# Altium footprint library PcbLib1.PcbLib: 19 footprints (part 1 of 2)
Each footprint in its own frame and in the unit in brackets; x right, y up, seen from the top. Pads: shape width x height; smd on the part's side, far side on the other; paste and mask are expansions set on the pad; w line width, h text height; cw(c..) or ccw(c..) is an arc to the next point about the centre after c.
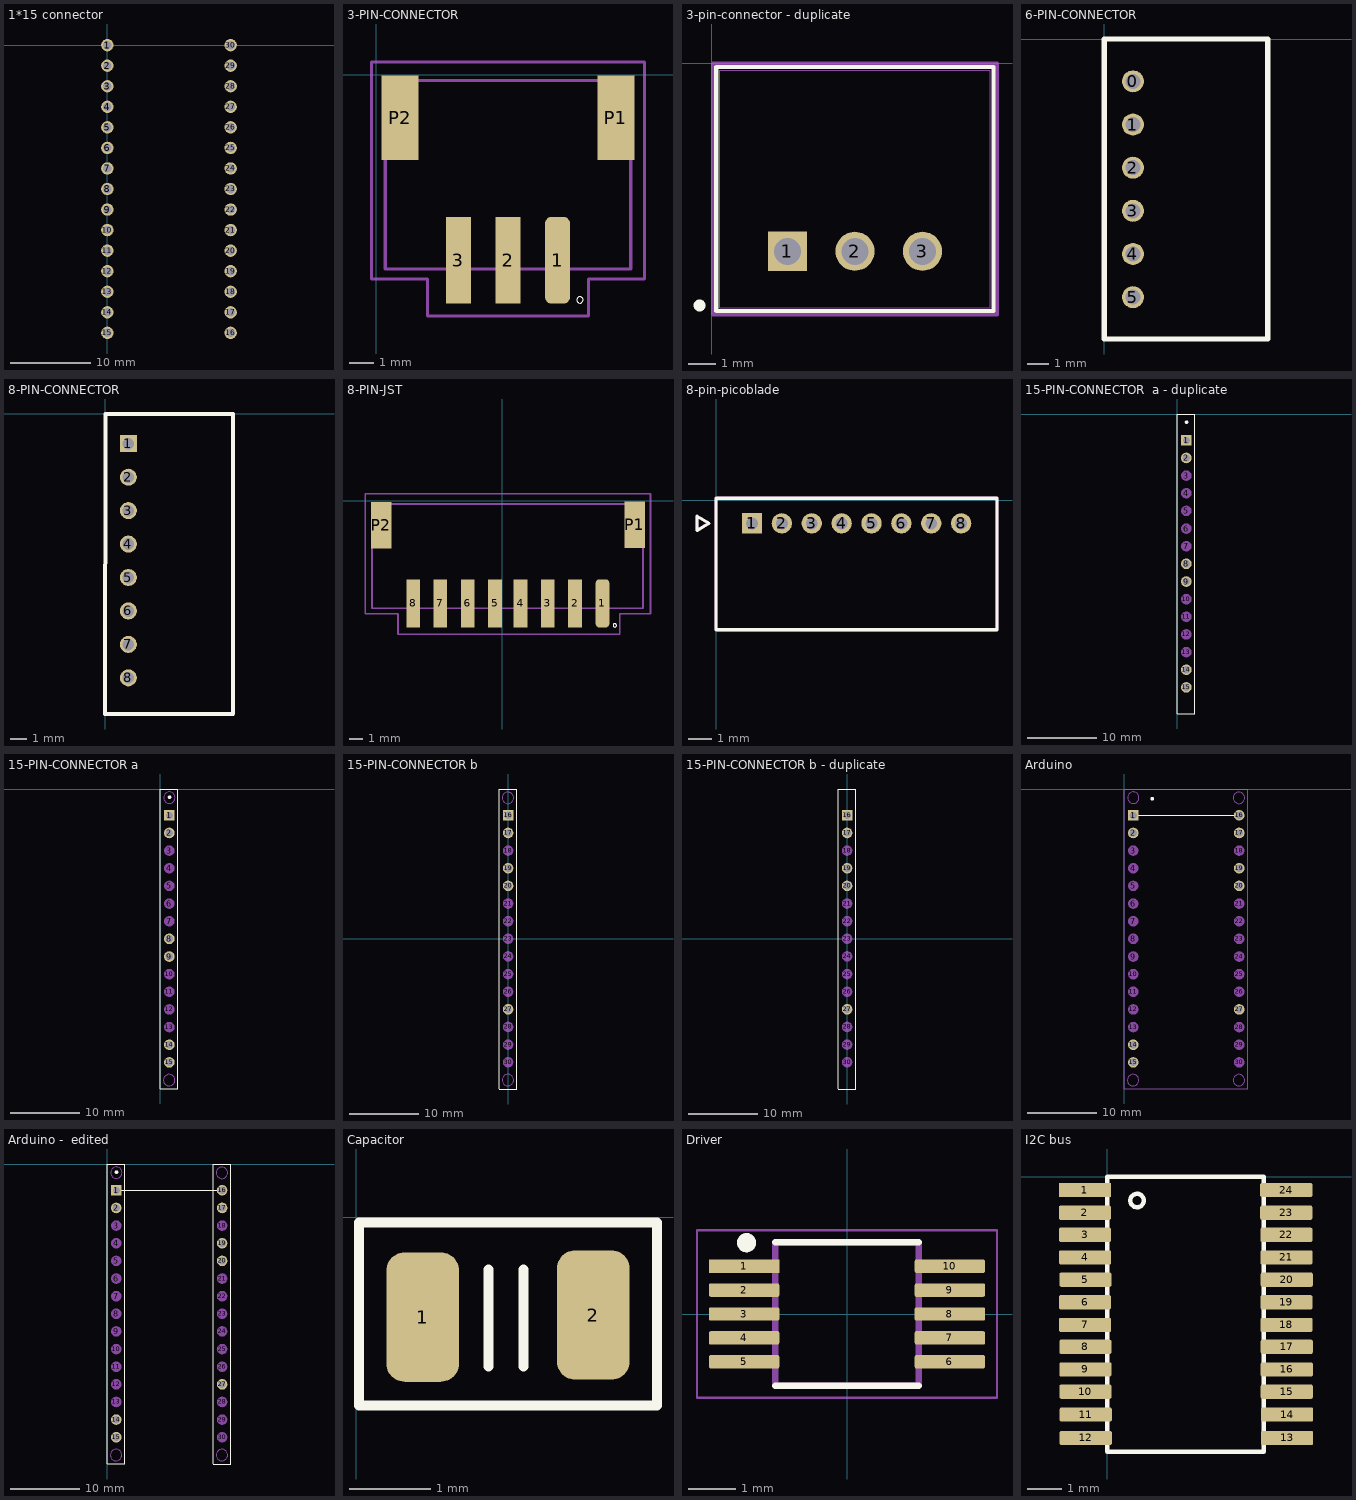
[diagram p0: the footprints below, top view; thin cyan lines are the x and y axes]

## 1*15 connector [mil] "Arduino"
pads (30):
  round 60 hole 40: 1(0,-0.39) 4(0,-300.39) 7(0,-600.39) 10(0,-900.39) 13(0,-1200.39) 16(600,-1400.39) 19(600,-1100.39) 22(600,-800.39) 25(600,-500.39) 28(600,-200.39)
  round 60 hole 41.77: 2(0,-100.39) 3(0,-200.39) 5(0,-400.39) 6(0,-500.39) 8(0,-700.39) 9(0,-800.39) 11(0,-1000.39) 12(0,-1100.39) 14(0,-1300.39) 15(0,-1400.39) 17(600,-1300.39) 18(600,-1200.39) 20(600,-1000.39) 21(600,-900.39) 23(600,-700.39) 24(600,-600.39) 26(600,-400.39) 27(600,-300.39) 29(600,-100.39) 30(600,-0.39)

## 3-PIN-CONNECTOR [mm]
pads (5):
  rrect50% 1x3.5 smd: 1(7.315,-7.482)
  rect 1x3.5 smd: 2(5.315,-7.482) 3(3.315,-7.482)
  rect 1.5x3.4 smd: P1(9.665,-1.732) P2(0.965,-1.732)
Top Overlay:
  circle w0: c8.215,-9.082 r0.127
Mechanical 13:
  lines w0.127: 0.365,-7.832 0.365,-0.232 10.265,-0.232 10.265,-7.832 0.365,-7.832
Mechanical 15:
  lines w0.127: -0.185,-8.232 -0.185,0.518 10.815,0.518 10.815,-8.232 8.565,-8.232 8.565,-9.732 2.065,-9.732 2.065,-8.232 -0.185,-8.232

## 3-pin-connector - duplicate [mm] "through hole"
pads (3):
  rect 1.449x1.449 hole 1: 1(2.79,-6.966)
  round 1.449 hole 1: 2(5.29,-6.966) 3(7.79,-6.966)
Top Overlay:
  circle w0.254: c-0.46,-8.97 r0.095
  lines w0.152: 0.159,-9.181 10.421,-9.181 10.421,-0.139 0.159,-0.139 0.159,-9.181
Mechanical 13:
  lines w0.025: 0.286,-9.054 10.294,-9.054 10.294,-0.266 0.286,-0.266 0.286,-9.054
Mechanical 15:
  lines w0.152: 0.032,-9.308 0.032,-0.012 10.548,-0.012 10.548,-9.308 0.032,-9.308
3D body: height 0.25, standoff 0, extent 2.79,-6.966 3.044,-6.712

## 6-PIN-CONNECTOR [mil]
pads (6):
  round 40 hole 27.56: 0(52.36,-76.83) 1(52.36,-155.57) 2(52.36,-234.31) 3(52.36,-313.05) 4(52.36,-391.79) 5(52.36,-470.53)
Top Overlay:
  lines w10: -0.27,-546.87 -0.27,0.44 298.42,0.44 298.42,-546.87 -0.27,-546.87

## 8-PIN-CONNECTOR [mil]
pads (8):
  rect 40x40 hole 27.56: 1(53.98,-70.39)
  round 40 hole 27.56: 2(53.98,-149.13) 3(53.98,-227.87) 4(53.98,-306.61) 5(53.98,-385.35) 6(53.98,-464.09) 7(53.98,-542.83) 8(53.98,-621.58)
Top Overlay:
  lines w10: -1.31,-706.67 0,-0.39 53.98,-0.39 300.04,-0.39 300.55,-706.29 0,-706.67

## 8-PIN-JST [mm] "SMT"
pads (10):
  rrect50% 1x3.5 smd: 1(7.315,-7.482)
  rect 1x3.5 smd: 2(5.315,-7.482) 3(3.315,-7.482) 4(1.335,-7.482) 5(-0.522,-7.482) 6(-2.522,-7.482) 7(-4.522,-7.482) 8(-6.502,-7.482)
  rect 1.5x3.4 smd: P1(9.665,-1.732) P2(-8.825,-1.782)
Top Overlay:
  circle w0: c8.215,-9.082 r0.127
Mechanical 13:
  lines w0.127: -9.51,-7.832 10.265,-7.832 10.265,-0.232 -9.51,-0.232 -9.51,-7.832
Mechanical 15:
  lines w0.127: -10,-8.232 -7.6,-8.232 -7.6,-9.732 8.565,-9.732 8.565,-8.232 10.815,-8.232 10.815,0.518 -10,0.518 -10,-8.232

## 8-pin-picoblade [mm] "PicoBlade"
pads (8):
  rect 0.85x0.85 hole 0.5 mask+0.076: 1(1.505,-0.977)
  round 0.85 hole 0.5 mask+0.076: 2(2.755,-0.977) 3(4.005,-0.977) 4(5.255,-0.977) 5(6.505,-0.977) 6(7.755,-0.977) 7(9.005,-0.977) 8(10.255,-0.977)
Top Overlay:
  lines w0.127: -0.795,-1.277 -0.795,-0.677 -0.295,-0.977 -0.795,-1.277 ; 0.005,-5.427 11.755,-5.427 11.755,0.073 0.005,0.073 0.005,-5.427
Bottom Solder:
  circle w0.501: c2.755,-0.977 r0.251
  circle w0.501: c4.005,-0.977 r0.251
  circle w0.501: c5.255,-0.977 r0.251
  circle w0.501: c6.505,-0.977 r0.251
  circle w0.501: c7.755,-0.977 r0.251
  circle w0.501: c9.005,-0.977 r0.251
  circle w0.501: c10.255,-0.977 r0.251
  region: 2.006,-1.478 1.004,-1.478 1.004,-0.476 2.006,-0.476
Mechanical 13:
  lines w0.127: -0.795,-1.277 -0.795,-0.677 -0.295,-0.977 -0.795,-1.277 ; 0.005,-5.427 11.755,-5.427 11.755,0.073 0.005,0.073 0.005,-5.427

## 15-PIN-CONNECTOR  a - duplicate [mil] "Arduino Nano 33 BLE a"
pads (15):
  rect 60x60 hole 40: 1(51.18,-149.21)
  round 60 hole 41.77: 2(51.18,-249.21) 8(51.18,-849.21) 9(51.18,-949.21) 14(51.18,-1449.21) 15(51.18,-1549.21)
  round 60 on Mech1: 3(51.18,-349.21) 4(51.18,-449.21) 5(51.18,-549.21) 6(51.18,-649.21) 7(51.18,-749.21) 10(51.18,-1049.21) 11(51.18,-1149.21) 12(51.18,-1249.21) 13(51.18,-1349.21)
Top Overlay:
  circle w10: c52.36,-46.06 r5.35
  lines w5: 0,-1700 98.43,-1700 98.43,0 0,0 0,-1700

## 15-PIN-CONNECTOR a [mil] "Arduino Nano 33 BLE a"
pads (15):
  rect 60x60 hole 40: 1(51.18,-149.21)
  round 60 hole 41.77: 2(51.18,-249.21) 8(51.18,-849.21) 9(51.18,-949.21) 14(51.18,-1449.21) 15(51.18,-1549.21)
  round 60 on Mech1: 3(51.18,-349.21) 4(51.18,-449.21) 5(51.18,-549.21) 6(51.18,-649.21) 7(51.18,-749.21) 10(51.18,-1049.21) 11(51.18,-1149.21) 12(51.18,-1249.21) 13(51.18,-1349.21)
Top Overlay:
  circle w10: c52.36,-46.06 r5.35
  lines w5: 0,-1700 0,0 98.43,0 98.43,-1700 0,-1700
Mechanical 1:
  circle w5: c50,-1650 r32.48
  circle w5: c51.18,-49.21 r32.48

## 15-PIN-CONNECTOR b [mil] "Arduino Nano 33 BLE b"
pads (15):
  rect 60x60 hole 41.77: 16(0,700)
  round 60 hole 41.77: 17(0,600) 19(0,400) 20(0,300)
  round 60 on Mech1: 18(0,500) 21(0,200) 22(0,100) 23(0,0) 24(0,-100) 25(0,-200) 26(0,-300) 28(0,-500) 29(0,-600) 30(0,-700)
  round 60 hole 40: 27(0,-400)
Top Overlay:
  lines w5: -49.61,-851.57 48.82,-851.57 ; -49.61,-850.79 -49.61,849.21 48.82,849.21 48.82,-850.79
Mechanical 1:
  circle w5: c-1.18,799.21 r32.48
  circle w5: c-1.18,-800.79 r32.48

## 15-PIN-CONNECTOR b - duplicate [mil] "Arduino Nano 33 BLE b"
pads (15):
  rect 60x60 hole 41.77: 16(0,700)
  round 60 hole 41.77: 17(0,600) 19(0,400) 20(0,300)
  round 60 on Mech1: 18(0,500) 21(0,200) 22(0,100) 23(0,0) 24(0,-100) 25(0,-200) 26(0,-300) 28(0,-500) 29(0,-600) 30(0,-700)
  round 60 hole 40: 27(0,-400)
Top Overlay:
  lines w5: -49.61,-851.57 48.82,-851.57 ; -49.61,-850.79 -49.61,849.21 48.82,849.21 48.82,-850.79

## Arduino [mil] "Arduino Nano 33 BLE"
pads (30):
  rect 60x60 hole 40: 1(51.18,-149.21)
  round 60 hole 41.77: 2(51.18,-249.21) 14(51.18,-1449.21) 15(51.18,-1549.21) 16(651.18,-149.21) 17(651.18,-249.21) 19(651.18,-449.21) 20(651.18,-549.21)
  round 60 on Mech1: 3(51.18,-349.21) 4(51.18,-449.21) 5(51.18,-549.21) 6(51.18,-649.21) 7(51.18,-749.21) 8(51.18,-849.21) 9(51.18,-949.21) 10(51.18,-1049.21) 11(51.18,-1149.21) 12(51.18,-1249.21) 13(51.18,-1349.21) 18(651.18,-349.21) 21(651.18,-649.21) 22(651.18,-749.21) 23(651.18,-849.21) 24(651.18,-949.21) 25(651.18,-1049.21) 26(651.18,-1149.21) 28(651.18,-1349.21) 29(651.18,-1449.21) 30(651.18,-1549.21)
  round 60 hole 40: 27(651.18,-1249.21)
Top Overlay:
  circle w10: c158.66,-55.51 r5.35
  lines w5: 51.18,-149.21 651.18,-149.21
Mechanical 1:
  circle w5: c51.18,-49.21 r32.48
  circle w5: c650,-50 r32.48
  circle w5: c50,-1650 r32.48
  circle w5: c650,-1650 r32.48
  lines w5: 0,-1700 700,-1700 700,0 0,0 0,-1700

## Arduino -  edited [mil] "Arduino Nano 33 BLE"
pads (30):
  rect 60x60 hole 40: 1(51.18,-149.21)
  round 60 hole 41.77: 2(51.18,-249.21) 14(51.18,-1449.21) 15(51.18,-1549.21) 16(651.18,-149.21) 17(651.18,-249.21) 19(651.18,-449.21) 20(651.18,-549.21)
  round 60 on Mech1: 3(51.18,-349.21) 4(51.18,-449.21) 5(51.18,-549.21) 6(51.18,-649.21) 7(51.18,-749.21) 8(51.18,-849.21) 9(51.18,-949.21) 10(51.18,-1049.21) 11(51.18,-1149.21) 12(51.18,-1249.21) 13(51.18,-1349.21) 18(651.18,-349.21) 21(651.18,-649.21) 22(651.18,-749.21) 23(651.18,-849.21) 24(651.18,-949.21) 25(651.18,-1049.21) 26(651.18,-1149.21) 28(651.18,-1349.21) 29(651.18,-1449.21) 30(651.18,-1549.21)
  round 60 hole 40: 27(651.18,-1249.21)
Top Overlay:
  circle w10: c52.36,-46.06 r5.35
  lines w5: 51.18,-149.21 651.18,-149.21 ; 601.57,-1700.79 700,-1700.79 ; 601.57,-1700 601.57,0 700,0 700,-1700 ; 0,-1700 98.43,-1700 98.43,0 0,0 0,-1700
Mechanical 1:
  circle w5: c51.18,-49.21 r32.48
  circle w5: c650,-50 r32.48
  circle w5: c50,-1650 r32.48
  circle w5: c650,-1650 r32.48

## Capacitor [mm] "SMT"
pads (2):
  rrect50% 0.9x1.6 smd: 1(0.824,-1.236) 2(2.933,-1.211)
Top Overlay:
  lines w0.127: 1.637,-1.846 1.637,-0.652 ; 2.069,-1.846 2.069,-0.652 ; 0.037,-2.328 0.037,-0.068 3.72,-0.068 3.72,-2.328 0.037,-2.328

## Driver [mm] "DRV2605LDGST"
pads (10):
  rect 1.47x0.28 smd: 1(-2.15,1)
  rrect25% 1.47x0.28 smd: 2(-2.15,0.5) 3(-2.15,0) 4(-2.15,-0.5) 5(-2.15,-1) 6(2.15,-1) 7(2.15,-0.5) 8(2.15,0) 9(2.15,0.5) 10(2.15,1)
Top Overlay:
  circle w0.2: c-2.1,1.49 r0.1
  lines w0.127: -1.5,-1.5 1.5,-1.5 ; -1.5,1.5 1.5,1.5
Mechanical 13:
  circle w0.2: c-2.1,1.49 r0.1
  lines w0.127: -1.5,-1.5 1.5,-1.5 1.5,1.5 -1.5,1.5 -1.5,-1.5
Mechanical 15:
  lines w0.05: -3.135,-1.75 3.135,-1.75 3.135,1.75 -3.135,1.75 -3.135,-1.75

## I2C bus [mm] "PI4MSD5V9548A"
pads (24):
  rect 1.5x0.41 smd: 1(-0.64,-0.38)
  rrect25% 1.5x0.41 smd: 2(-0.64,-1.03) 3(-0.635,-1.666) 4(-0.635,-2.316) 5(-0.625,-2.956) 6(-0.635,-3.606) 7(-0.635,-4.256) 8(-0.625,-4.886) 9(-0.625,-5.536) 10(-0.625,-6.176) 11(-0.615,-6.836) 12(-0.615,-7.506) 13(5.175,-7.506) 14(5.175,-6.836) 15(5.165,-6.176) 16(5.165,-5.536) 17(5.165,-4.886) 18(5.155,-4.256) 19(5.155,-3.606) 20(5.165,-2.956) 21(5.155,-2.316) 22(5.155,-1.666) 23(5.15,-1.03) 24(5.15,-0.38)
Top Overlay:
  circle w0.127: c0.86,-0.68 r0.194
  lines w0.127: 0,-7.9 0,0 4.5,0 4.5,-7.9 0,-7.9